# EAGLE library part NRF24MINI (library nrf24mini_DIP)
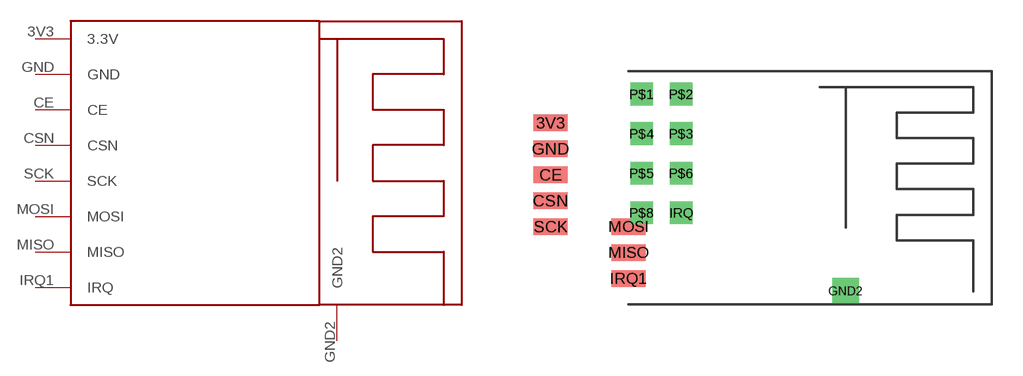
[diagram p0: symbol with the pads of NRF24MINI; footprint NRF24MINI]

Designator prefix -

## NRF24MINI  [NRF24MINI]
3V3  3.3V
CE  CE
CSN  CSN
GND  GND
GND2  GND2
IRQ1  IRQ
MISO  MISO
MOSI  MOSI
SCK  SCK

## Footprint NRF24MINI (pad centres in mm)
smd 1.676 x 0.813: 3V3 -3.81,7.62; CE -3.81,5.08; CSN -3.81,3.81; GND -3.81,6.35; IRQ1 0,0; MISO 0,1.27; MOSI 0,2.54; SCK -3.81,2.54
drill 0.8 square: GND2 10.625,-0.625
drill 0.6 square: IRQ 2.581,3.226; P$1 0.645,9.032; P$2 2.581,9.032; P$3 2.581,7.097; P$4 0.645,7.097; P$5 0.645,5.161; P$6 2.581,5.161; P$8 0.645,3.226